# EAGLE library part HEADER-2X20P (library Connector)
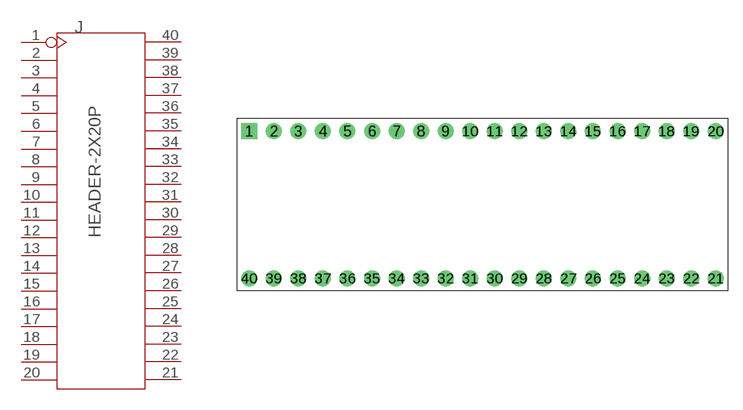
[diagram p20: symbol with the pads of 2X20P-2.54; footprint 2X20P-2.54]

Designator prefix J

## HEADER-2X20P-2.54  [2X20P-2.54]
1  1
2  2
3  3
4  4
5  5
6  6
7  7
8  8
9  9
10  10
11  11
12  12
13  13
14  14
15  15
16  16
17  17
18  18
19  19
20  20
21  21
22  22
23  23
24  24
25  25
26  26
27  27
28  28
29  29
30  30
31  31
32  32
33  33
34  34
35  35
36  36
37  37
38  38
39  39
40  40

## Footprint 2X20P-2.54 (pad centres in mm)
drill 0.889 pad 1.651 square: 1 -22.86,7.62
drill 0.889 pad 1.651: 2 -20.32,7.62; 3 -17.78,7.62; 4 -15.24,7.62; 5 -12.7,7.62; 6 -10.16,7.62; 7 -7.62,7.62; 8 -5.08,7.62; 9 -2.54,7.62; 10 0,7.62; 11 2.54,7.62; 12 5.08,7.62; 13 7.62,7.62; 14 10.16,7.62; 15 12.7,7.62; 16 15.24,7.62; 17 17.78,7.62; 18 20.32,7.62; 19 22.86,7.62; 20 25.4,7.62; 21 25.4,-7.62; 22 22.86,-7.62; 23 20.32,-7.62; 24 17.78,-7.62; 25 15.24,-7.62; 26 12.7,-7.62; 27 10.16,-7.62; 28 7.62,-7.62; 29 5.08,-7.62; 30 2.54,-7.62; 31 0,-7.62; 32 -2.54,-7.62; 33 -5.08,-7.62; 34 -7.62,-7.62; 35 -10.16,-7.62; 36 -12.7,-7.62; 37 -15.24,-7.62; 38 -17.78,-7.62; 39 -20.32,-7.62; 40 -22.86,-7.62